# Altium schematic symbol library SMA_DO214_Diode.SchLib: 1 symbol
Pins are listed as number, name and electrical type; pins without a type are passive.

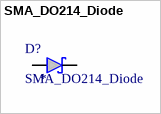
[diagram p0: symbol SMA_DO214_Diode]

## SMA_DO214_Diode
designator D?
SMA Diode_RS1M_Fast Recovery Rectifiers ROHS; LCSC: *
footprint SMA_DO214_Diode
pins: 1 K, 2 A